# EAGLE library part *161 (library digital)
74xx161: Binary counter With synchronous clear
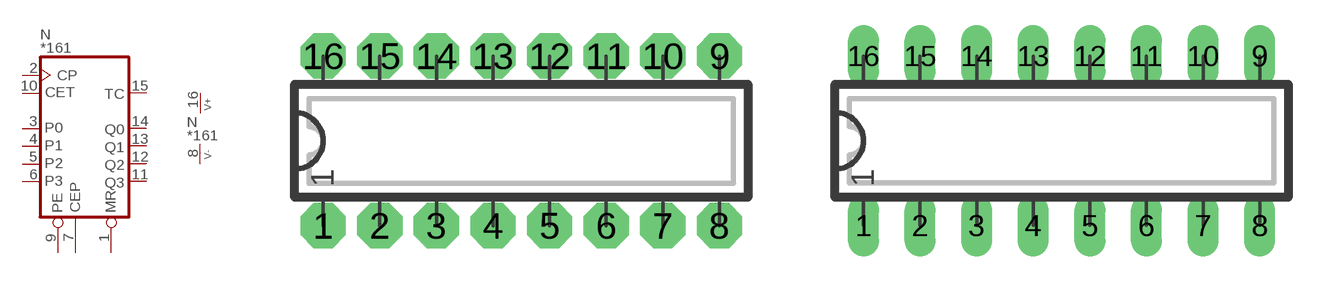
[diagram p2: symbol with the pads of DIP16N; footprints DIP16N, DIP16L]

Designator prefix N; gates  =COUNT_1 P=V+-

## 74161N, 74AC161N, 74ACT161N, 74ALS161N, 74AS161N, 74C161N, 74HC161N, 74LS161N, 74S161N  [DIP16N]
1   :MR  in
2   :CP  in
3   :P0  in
4   :P1  in
5   :P2  in
6   :P3  in
7   :CEP  in
8  P:V-  pwr
9   :PE  in
10   :CET  in
11   :Q3  out
12   :Q2  out
13   :Q1  out
14   :Q0  out
15   :TC  out
16  P:V+  pwr

## 74161, 74AC161, 74ACT161, 74ALS161, 74AS161, 74C161, 74HC161, 74LS161, 74S161  [DIP16L]
Pads as for DIP16N

## 74161L, 74AC161L, 74ACT161L, 74ALS161L, 74AS161L, 74C161L, 74HC161L, 74LS161L, 74S161L  [DIP16L]
Pads as for DIP16N

## 74161R, 74AC161R, 74ACT161R, 74ALS161R, 74AS161R, 74C161R, 74HC161R, 74LS161R, 74S161R  [DIP16R]
Pads as for DIP16N

## 74AC161S, 74ACT161S, 74HC161S, 74HCT161S  [SO16]
Pads as for DIP16N

## Footprint DIP16N (pad centres in mm)
DIP-16 Standard IC package, 16 pins
drill 0.813 pad 2.032 octagon: 1 0,0; 2 2.54,0; 3 5.08,0; 4 7.62,0; 5 10.16,0; 6 12.7,0; 7 15.24,0; 8 17.78,0; 9 17.78,7.62; 10 15.24,7.62; 11 12.7,7.62; 12 10.16,7.62; 13 7.62,7.62; 14 5.08,7.62; 15 2.54,7.62; 16 0,7.62

## Footprint DIP16L (pad centres in mm)
DIP-16, long pads Standard IC package, 16 pins
drill 0.813 pad 1.397 long: 1 0,0; 2 2.54,0; 3 5.08,0; 4 7.62,0; 5 10.16,0; 6 12.7,0; 7 15.24,0; 8 17.78,0; 9 17.78,7.62; 10 15.24,7.62; 11 12.7,7.62; 12 10.16,7.62; 13 7.62,7.62; 14 5.08,7.62; 15 2.54,7.62; 16 0,7.62

## Footprint DIP16R (pad centres in mm)
DIP-16, reduced pads Standard IC package, 16 pins
drill 0.813 pad 1.397 square: 1 0,0; 2 2.54,0; 3 5.08,0; 4 7.62,0; 5 10.16,0; 6 12.7,0; 7 15.24,0; 8 17.78,0; 9 17.78,7.62; 10 15.24,7.62; 11 12.7,7.62; 12 10.16,7.62; 13 7.62,7.62; 14 5.08,7.62; 15 2.54,7.62; 16 0,7.62

## Footprint SO16 (pad centres in mm)
SO-16, SMD SOIC IC package, 16 pins
smd 0.635 x 1.778: 1 -4.445,-2.857; 2 -3.175,-2.857; 3 -1.905,-2.857; 4 -0.635,-2.857; 5 0.635,-2.857; 6 1.905,-2.857; 7 3.175,-2.857; 8 4.445,-2.857; 9 4.445,2.857; 10 3.175,2.857; 11 1.905,2.857; 12 0.635,2.857; 13 -0.635,2.857; 14 -1.905,2.857; 15 -3.175,2.857; 16 -4.445,2.857